# Altium schematic symbol library MMBT3906LT1G.SchLib: 1 symbol
Pins are listed as number, name and electrical type; pins without a type are passive.

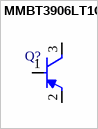
[diagram p0: symbol MMBT3906LT1G]

## MMBT3906LT1G
designator Q?
=Description
pins: 1 B, 2 E, 3 C